# EAGLE library part A2F500M3G-FG256-COMPACT (library MainBoard)
A2F500M3G FG256 SmartFusion A2F500M3G device in FG256 package with a compact symbol Sources: A2F500M3-FG256 BSDL <http://www.actel.com/documents/bsdl/A2F200M3F_FG256.bsd> Package Mechanical Drawings <http://www.actel.com/documents/PckgMechDrwngs.pdf> SmartFusion Intelligent Mixed Signal FPGAs Datasheet <http://www.actel.com/documents/SmartFusion_DS.pdf> Auto generated by make-symbol-device-package-bsdl.ulp Rev. 34 Source: A2F500M3G_FG256.bsd
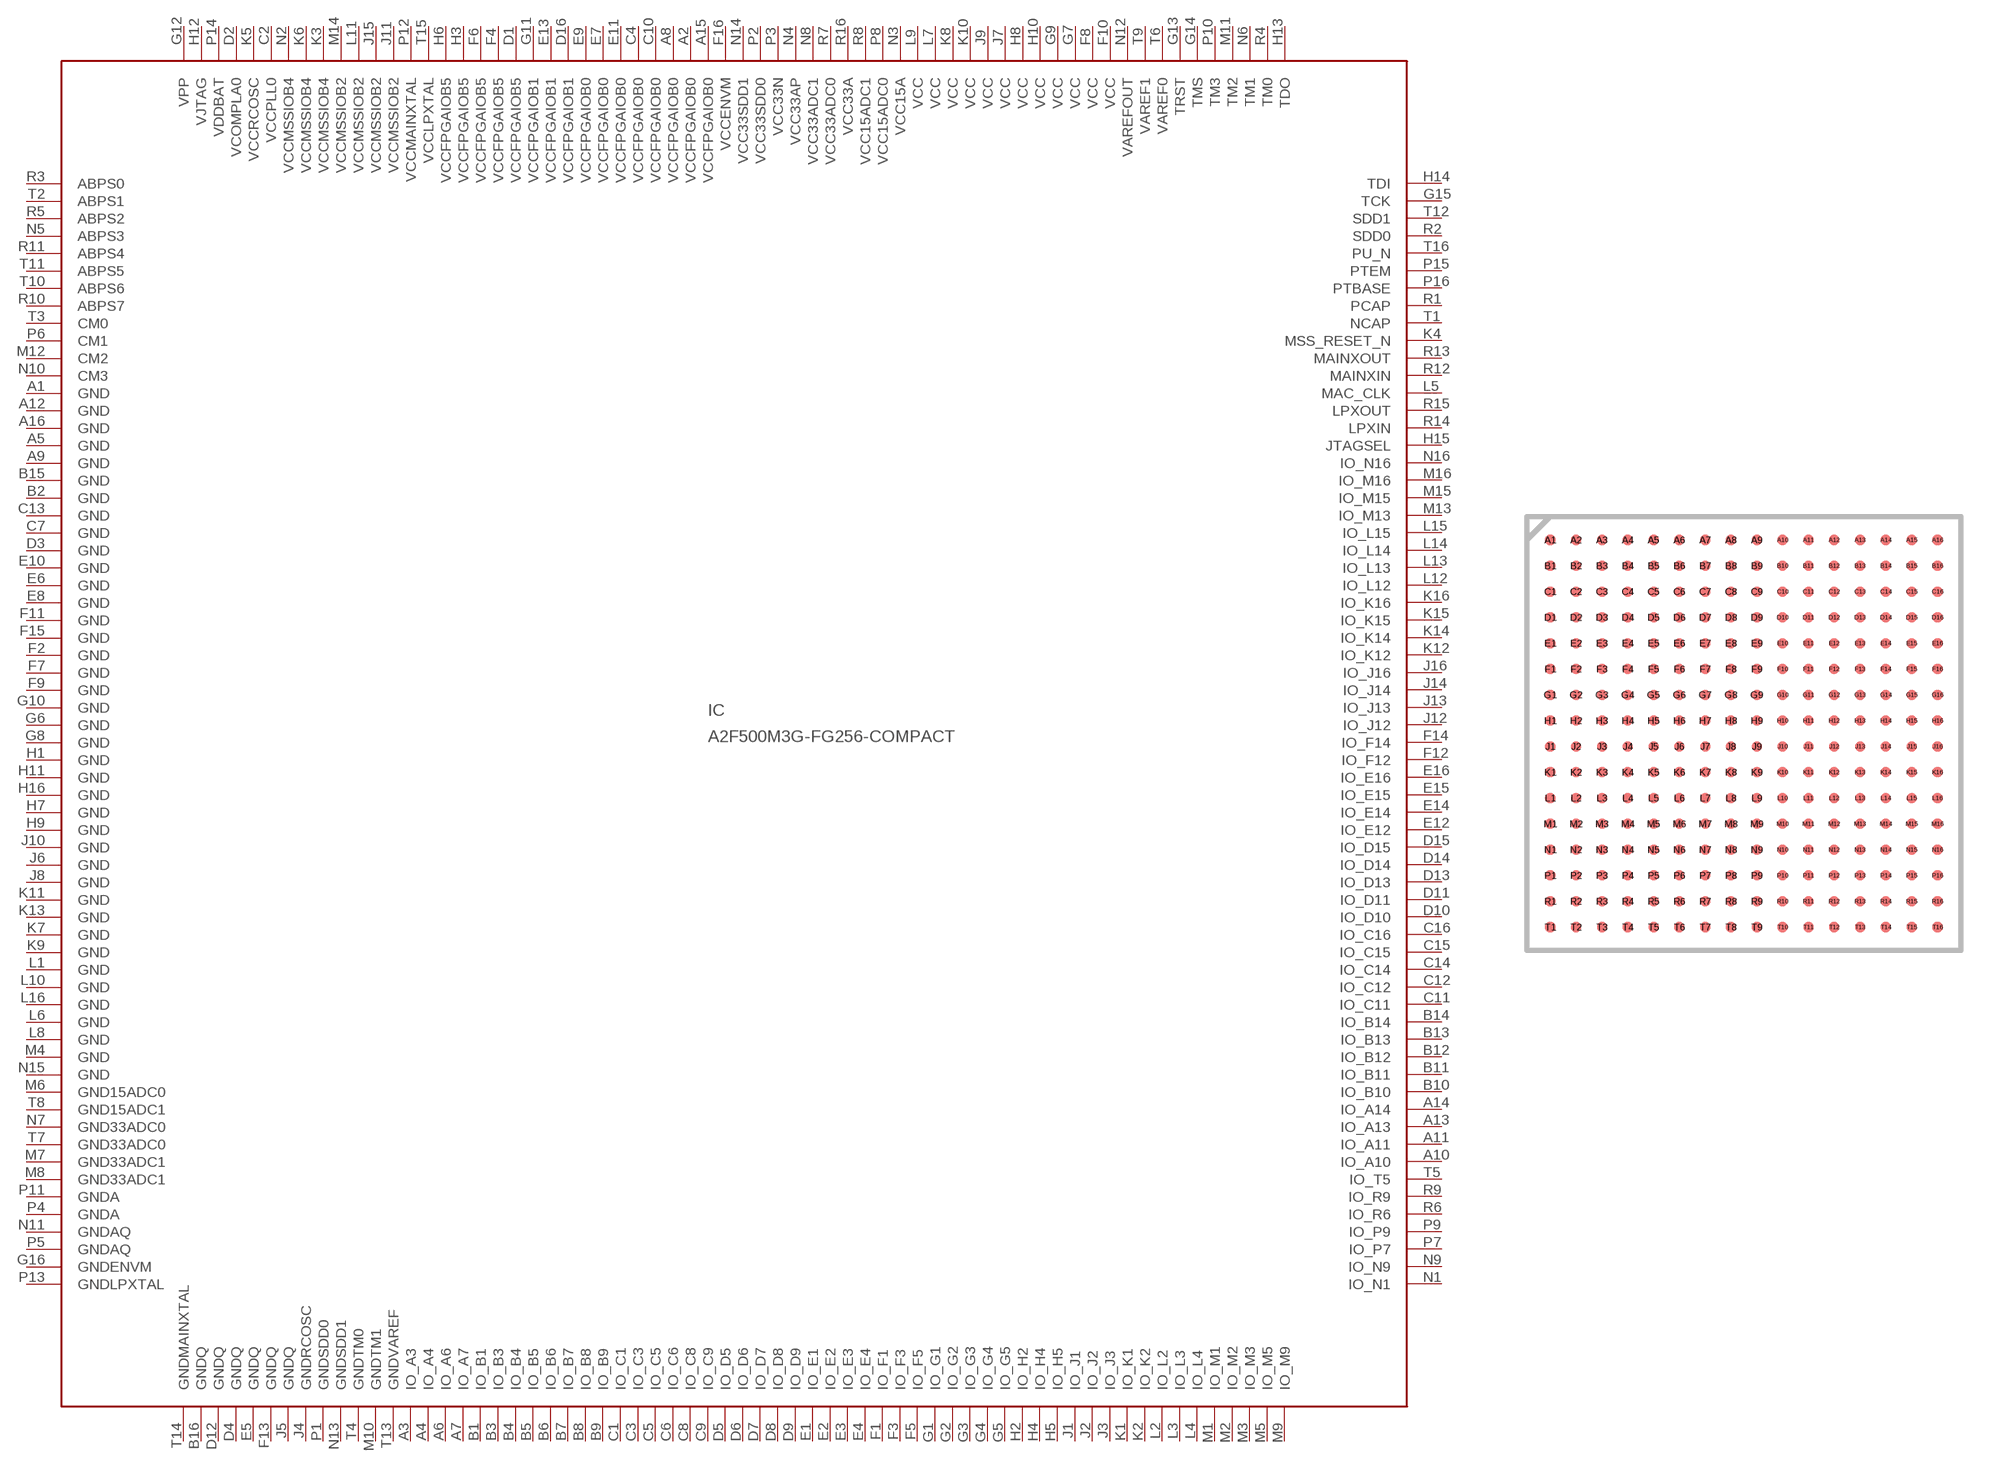
[diagram p2: symbol with the pads of FG256; footprint FG256]

Designator prefix IC

## A2F500M3G-FG256-COMPACT  [FG256]
A1  GND  pwr
A2  VCCFPGAIOB0  pwr
A3  IO_A3
A4  IO_A4
A5  GND  pwr
A6  IO_A6
A7  IO_A7
A8  VCCFPGAIOB0  pwr
A9  GND  pwr
A10  IO_A10
A11  IO_A11
A12  GND  pwr
A13  IO_A13
A14  IO_A14
A15  VCCFPGAIOB0  pwr
A16  GND  pwr
B1  IO_B1
B2  GND  pwr
B3  IO_B3
B4  IO_B4
B5  IO_B5
B6  IO_B6
B7  IO_B7
B8  IO_B8
B9  IO_B9
B10  IO_B10
B11  IO_B11
B12  IO_B12
B13  IO_B13
B14  IO_B14
B15  GND  pwr
B16  GNDQ  pwr
C1  IO_C1
C2  VCCPLL0  pwr
C3  IO_C3
C4  VCCFPGAIOB0  pwr
C5  IO_C5
C6  IO_C6
C7  GND  pwr
C8  IO_C8
C9  IO_C9
C10  VCCFPGAIOB0  pwr
C11  IO_C11
C12  IO_C12
C13  GND  pwr
C14  IO_C14
C15  IO_C15
C16  IO_C16
D1  VCCFPGAIOB5  pwr
D2  VCOMPLA0  pas
D3  GND  pwr
D4  GNDQ  pwr
D5  IO_D5
D6  IO_D6
D7  IO_D7
D8  IO_D8
D9  IO_D9
D10  IO_D10
D11  IO_D11
D12  GNDQ  pwr
D13  IO_D13
D14  IO_D14
D15  IO_D15
D16  VCCFPGAIOB1  pwr
E1  IO_E1
E2  IO_E2
E3  IO_E3
E4  IO_E4
E5  GNDQ  pwr
E6  GND  pwr
E7  VCCFPGAIOB0  pwr
E8  GND  pwr
E9  VCCFPGAIOB0  pwr
E10  GND  pwr
E11  VCCFPGAIOB0  pwr
E12  IO_E12
E13  VCCFPGAIOB1  pwr
E14  IO_E14
E15  IO_E15
E16  IO_E16
F1  IO_F1
F2  GND  pwr
F3  IO_F3
F4  VCCFPGAIOB5  pwr
F5  IO_F5
F6  VCCFPGAIOB5  pwr
F7  GND  pwr
F8  VCC  pwr
F9  GND  pwr
F10  VCC  pwr
F11  GND  pwr
F12  IO_F12
F13  GNDQ  pwr
F14  IO_F14
F15  GND  pwr
F16  VCCENVM  pwr
G1  IO_G1
G2  IO_G2
G3  IO_G3
G4  IO_G4
G5  IO_G5
G6  GND  pwr
G7  VCC  pwr
G8  GND  pwr
G9  VCC  pwr
G10  GND  pwr
G11  VCCFPGAIOB1  pwr
G12  VPP  pas
G13  TRST  in
G14  TMS  in
G15  TCK  in
G16  GNDENVM  pwr
H1  GND  pwr
H2  IO_H2
H3  VCCFPGAIOB5  pwr
H4  IO_H4
H5  IO_H5
H6  VCCFPGAIOB5  pwr
H7  GND  pwr
H8  VCC  pwr
H9  GND  pwr
H10  VCC  pwr
H11  GND  pwr
H12  VJTAG  pas
H13  TDO  out
H14  TDI  in
H15  JTAGSEL  pas
H16  GND  pwr
J1  IO_J1
J2  IO_J2
J3  IO_J3
J4  GNDRCOSC  pwr
J5  GNDQ  pwr
J6  GND  pwr
J7  VCC  pwr
J8  GND  pwr
J9  VCC  pwr
J10  GND  pwr
J11  VCCMSSIOB2  pwr
J12  IO_J12
J13  IO_J13
J14  IO_J14
J15  VCCMSSIOB2  pwr
J16  IO_J16
K1  IO_K1
K2  IO_K2
K3  VCCMSSIOB4  pwr
K4  MSS_RESET_N  pas
K5  VCCRCOSC  pwr
K6  VCCMSSIOB4  pwr
K7  GND  pwr
K8  VCC  pwr
K9  GND  pwr
K10  VCC  pwr
K11  GND  pwr
K12  IO_K12
K13  GND  pwr
K14  IO_K14
K15  IO_K15
K16  IO_K16
L1  GND  pwr
L2  IO_L2
L3  IO_L3
L4  IO_L4
L5  MAC_CLK  pas
L6  GND  pwr
L7  VCC  pwr
L8  GND  pwr
L9  VCC  pwr
L10  GND  pwr
L11  VCCMSSIOB2  pwr
L12  IO_L12
L13  IO_L13
L14  IO_L14
L15  IO_L15
L16  GND  pwr
M1  IO_M1
M2  IO_M2
M3  IO_M3
M4  GND  pwr
M5  IO_M5  in
M6  GND15ADC0  pwr
M7  GND33ADC1  pwr
M8  GND33ADC1  pwr
M9  IO_M9  in
M10  GNDTM1  pwr
M11  TM2  pas
M12  CM2  pas
M13  IO_M13
M14  VCCMSSIOB2  pwr
M15  IO_M15
M16  IO_M16
N1  IO_N1
N2  VCCMSSIOB4  pwr
N3  VCC15A  pwr
N4  VCC33AP  pwr
N5  ABPS3  pas
N6  TM1  pas
N7  GND33ADC0  pwr
N8  VCC33ADC1  pwr
N9  IO_N9  in
N10  CM3  pas
N11  GNDAQ  pwr
N12  VAREFOUT  pas
N13  GNDSDD1  pwr
N14  VCC33SDD1  pwr
N15  GND  pwr
N16  IO_N16
P1  GNDSDD0  pwr
P2  VCC33SDD0  pwr
P3  VCC33N  pwr
P4  GNDA  pwr
P5  GNDAQ  pwr
P6  CM1  pas
P7  IO_P7  in
P8  VCC15ADC0  pwr
P9  IO_P9  in
P10  TM3  pas
P11  GNDA  pwr
P12  VCCMAINXTAL  pwr
P13  GNDLPXTAL  pwr
P14  VDDBAT  pwr
P15  PTEM  pas
P16  PTBASE  pas
R1  PCAP  pas
R2  SDD0  pas
R3  ABPS0  pas
R4  TM0  pas
R5  ABPS2  pas
R6  IO_R6  in
R7  VCC33ADC0  pwr
R8  VCC15ADC1  pwr
R9  IO_R9  in
R10  ABPS7  pas
R11  ABPS4  pas
R12  MAINXIN  pas
R13  MAINXOUT  pas
R14  LPXIN  pas
R15  LPXOUT  pas
R16  VCC33A  pwr
T1  NCAP  pas
T2  ABPS1  pas
T3  CM0  pas
T4  GNDTM0  pwr
T5  IO_T5  in
T6  VAREF0  pas
T7  GND33ADC0  pwr
T8  GND15ADC1  pwr
T9  VAREF1  pas
T10  ABPS6  pas
T11  ABPS5  pas
T12  SDD1  pas
T13  GNDVAREF  pwr
T14  GNDMAINXTAL  pwr
T15  VCCLPXTAL  pwr
T16  PU_N  pas

## Footprint FG256 (pad centres in mm)
FG256 Fine Pitch Ball Grid Array (1.0 mm pitch) 256-pin Package Auto generated by make-symbol-device-package-bsdl.ulp Rev. 34 Source: http://www.actel.com/documents/bsdl/A2F500M3G_FG256.bsd Parameters updated based on Actel's recommended BGA layout drawings Source: http://www.actel.com/documents/RecPCBdesign.pdf
smd 0.4 x 0.4: A1 -7.5,7.5; A2 -6.5,7.5; A3 -5.5,7.5; A4 -4.5,7.5; A5 -3.5,7.5; A6 -2.5,7.5; A7 -1.5,7.5; A8 -0.5,7.5; A9 0.5,7.5; A10 1.5,7.5; A11 2.5,7.5; A12 3.5,7.5; A13 4.5,7.5; A14 5.5,7.5; A15 6.5,7.5; A16 7.5,7.5; B1 -7.5,6.5; B2 -6.5,6.5; B3 -5.5,6.5; B4 -4.5,6.5; B5 -3.5,6.5; B6 -2.5,6.5; B7 -1.5,6.5; B8 -0.5,6.5; B9 0.5,6.5; B10 1.5,6.5; B11 2.5,6.5; B12 3.5,6.5; B13 4.5,6.5; B14 5.5,6.5; B15 6.5,6.5; B16 7.5,6.5; C1 -7.5,5.5; C2 -6.5,5.5; C3 -5.5,5.5; C4 -4.5,5.5; C5 -3.5,5.5; C6 -2.5,5.5; C7 -1.5,5.5; C8 -0.5,5.5; C9 0.5,5.5; C10 1.5,5.5; C11 2.5,5.5; C12 3.5,5.5; C13 4.5,5.5; C14 5.5,5.5; C15 6.5,5.5; C16 7.5,5.5; D1 -7.5,4.5; D2 -6.5,4.5; D3 -5.5,4.5; D4 -4.5,4.5; D5 -3.5,4.5; D6 -2.5,4.5; D7 -1.5,4.5; D8 -0.5,4.5; D9 0.5,4.5; D10 1.5,4.5; D11 2.5,4.5; D12 3.5,4.5; D13 4.5,4.5; D14 5.5,4.5; D15 6.5,4.5; D16 7.5,4.5; E1 -7.5,3.5; E2 -6.5,3.5; E3 -5.5,3.5; E4 -4.5,3.5; E5 -3.5,3.5; E6 -2.5,3.5; E7 -1.5,3.5; E8 -0.5,3.5; E9 0.5,3.5; E10 1.5,3.5; E11 2.5,3.5; E12 3.5,3.5; E13 4.5,3.5; E14 5.5,3.5; E15 6.5,3.5; E16 7.5,3.5; F1 -7.5,2.5; F2 -6.5,2.5; F3 -5.5,2.5; F4 -4.5,2.5; F5 -3.5,2.5; F6 -2.5,2.5; F7 -1.5,2.5; F8 -0.5,2.5; F9 0.5,2.5; F10 1.5,2.5; F11 2.5,2.5; F12 3.5,2.5; F13 4.5,2.5; F14 5.5,2.5; F15 6.5,2.5; F16 7.5,2.5; G1 -7.5,1.5; G2 -6.5,1.5; G3 -5.5,1.5; G4 -4.5,1.5; G5 -3.5,1.5; G6 -2.5,1.5; G7 -1.5,1.5; G8 -0.5,1.5; G9 0.5,1.5; G10 1.5,1.5; G11 2.5,1.5; G12 3.5,1.5; G13 4.5,1.5; G14 5.5,1.5; G15 6.5,1.5; G16 7.5,1.5; H1 -7.5,0.5; H2 -6.5,0.5; H3 -5.5,0.5; H4 -4.5,0.5; H5 -3.5,0.5; H6 -2.5,0.5; H7 -1.5,0.5; H8 -0.5,0.5; H9 0.5,0.5; H10 1.5,0.5; H11 2.5,0.5; H12 3.5,0.5; H13 4.5,0.5; H14 5.5,0.5; H15 6.5,0.5; H16 7.5,0.5; J1 -7.5,-0.5; J2 -6.5,-0.5; J3 -5.5,-0.5; J4 -4.5,-0.5; J5 -3.5,-0.5; J6 -2.5,-0.5; J7 -1.5,-0.5; J8 -0.5,-0.5; J9 0.5,-0.5; J10 1.5,-0.5; J11 2.5,-0.5; J12 3.5,-0.5; J13 4.5,-0.5; J14 5.5,-0.5; J15 6.5,-0.5; J16 7.5,-0.5; K1 -7.5,-1.5; K2 -6.5,-1.5; K3 -5.5,-1.5; K4 -4.5,-1.5; K5 -3.5,-1.5; K6 -2.5,-1.5; K7 -1.5,-1.5; K8 -0.5,-1.5; K9 0.5,-1.5; K10 1.5,-1.5; K11 2.5,-1.5; K12 3.5,-1.5; K13 4.5,-1.5; K14 5.5,-1.5; K15 6.5,-1.5; K16 7.5,-1.5; L1 -7.5,-2.5; L2 -6.5,-2.5; L3 -5.5,-2.5; L4 -4.5,-2.5; L5 -3.5,-2.5; L6 -2.5,-2.5; L7 -1.5,-2.5; L8 -0.5,-2.5; L9 0.5,-2.5; L10 1.5,-2.5; L11 2.5,-2.5; L12 3.5,-2.5; L13 4.5,-2.5; L14 5.5,-2.5; L15 6.5,-2.5; L16 7.5,-2.5; M1 -7.5,-3.5; M2 -6.5,-3.5; M3 -5.5,-3.5; M4 -4.5,-3.5; M5 -3.5,-3.5; M6 -2.5,-3.5; M7 -1.5,-3.5; M8 -0.5,-3.5; M9 0.5,-3.5; M10 1.5,-3.5; M11 2.5,-3.5; M12 3.5,-3.5; M13 4.5,-3.5; M14 5.5,-3.5; M15 6.5,-3.5; M16 7.5,-3.5; N1 -7.5,-4.5; N2 -6.5,-4.5; N3 -5.5,-4.5; N4 -4.5,-4.5; N5 -3.5,-4.5; N6 -2.5,-4.5; N7 -1.5,-4.5; N8 -0.5,-4.5; N9 0.5,-4.5; N10 1.5,-4.5; N11 2.5,-4.5; N12 3.5,-4.5; N13 4.5,-4.5; N14 5.5,-4.5; N15 6.5,-4.5; N16 7.5,-4.5; P1 -7.5,-5.5; P2 -6.5,-5.5; P3 -5.5,-5.5; P4 -4.5,-5.5; P5 -3.5,-5.5; P6 -2.5,-5.5; P7 -1.5,-5.5; P8 -0.5,-5.5; P9 0.5,-5.5; P10 1.5,-5.5; P11 2.5,-5.5; P12 3.5,-5.5; P13 4.5,-5.5; P14 5.5,-5.5; P15 6.5,-5.5; P16 7.5,-5.5; R1 -7.5,-6.5; R2 -6.5,-6.5; R3 -5.5,-6.5; R4 -4.5,-6.5; R5 -3.5,-6.5; R6 -2.5,-6.5; R7 -1.5,-6.5; R8 -0.5,-6.5; R9 0.5,-6.5; R10 1.5,-6.5; R11 2.5,-6.5; R12 3.5,-6.5; R13 4.5,-6.5; R14 5.5,-6.5; R15 6.5,-6.5; R16 7.5,-6.5; T1 -7.5,-7.5; T2 -6.5,-7.5; T3 -5.5,-7.5; T4 -4.5,-7.5; T5 -3.5,-7.5; T6 -2.5,-7.5; T7 -1.5,-7.5; T8 -0.5,-7.5; T9 0.5,-7.5; T10 1.5,-7.5; T11 2.5,-7.5; T12 3.5,-7.5; T13 4.5,-7.5; T14 5.5,-7.5; T15 6.5,-7.5; T16 7.5,-7.5